# Altium schematic symbol library TLE7181EMXUMA1.SchLib: 1 symbol
Pins are listed as number, name and electrical type; pins without a type are passive.

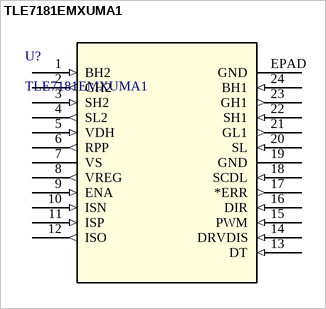
[diagram p0: symbol TLE7181EMXUMA1]

## TLE7181EMXUMA1
designator U?
It incorporates several protection features such as over current and short circuit detection as well as under-, over voltage and over temperature diagnosis. Typical applications are fans, pumps and electric power steering. The MOTIXâ„¢ TLE7181EM is designed for a 12V power net.; Manufacturer_Name: Infineon; Copyright: Copyright (C) 2026 Ultra Librarian. All rights reserved.; Manufacturer_Part_Number: TLE7181EMXUMA1; Datasheet: https://www.infineon.com/dgdl/Infineon-TLE7181EM-DS-v01_01-en.pdf?fileId=db3a30432f5008fe012f5440330e3991; RefDes: RefDes; Type: Type
footprint PG-SSOP-4_INF
pins: 1 BH2 (in), 2 GH2 (out), 3 SH2 (in), 4 SL2 (out), 5 VDH (in), 6 RPP (out), 7 VS (power), 8 VREG (out), 9 ENA (in), 10 ISN (in), 11 ISP (in), 12 ISO (out), 13 DT (in), 14 DRVDIS (in), 15 PWM (in), 16 DIR (in), 17 *ERR (out), 18 SCDL (in), 19 GND (power), 20 SL (in), 21 GL1 (out), 22 SH1 (in), 23 GH1 (out), 24 BH1 (in), EPAD GND (power)